# Altium schematic symbol library AP63301WU-7.SchLib: 1 symbol
Pins are listed as number, name and electrical type; pins without a type are passive.

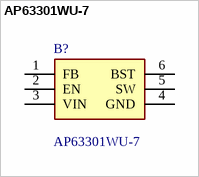
[diagram p0: symbol AP63301WU-7]

## AP63301WU-7
designator B?
3.8V TO 32V INPUT, 3A LOW IQ SYNCHRONOUS BUCK WITH ENHANCED EMI REDUCTION.; Manufacturer_Name: Diodes Incorporated; Geometry.Height: 1mm; Mouser Part Number: 621-AP63301WU-7; Mouser Price/Stock: https://www.mouser.co.uk/ProductDetail/Diodes-Incorporated/AP63301WU-7?qs=bZr6mbWTK5mxozg17S0lNg%3D%3D; Manufacturer_Part_Number: AP63301WU-7; Datasheet Link: https://www.diodes.com//assets/Datasheets/AP63300-AP63301.pdf
footprint SOT95P280X100-6N
pins: 1 FB, 2 EN, 3 VIN, 4 GND, 5 SW, 6 BST